# Altium footprint library E62系列-PcbLib.PcbLib: 3 footprints
Each footprint in its own frame and in the unit in brackets; x right, y up, seen from the top. Pads: shape width x height; smd on the part's side, far side on the other; paste and mask are expansions set on the pad; w line width, h text height; cw(c..) or ccw(c..) is an arc to the next point about the centre after c.
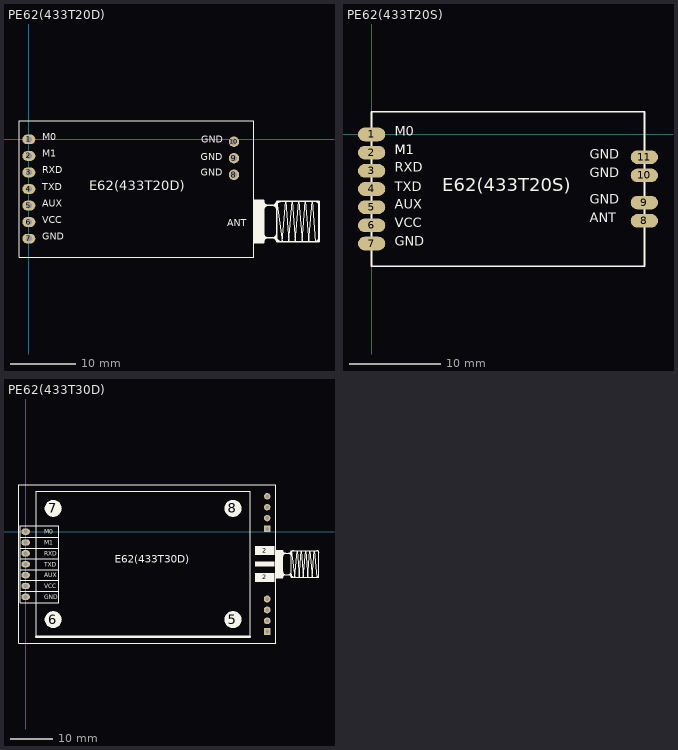
[diagram p0: the footprints below, top view; thin cyan lines are the x and y axes]

## PE62(433T20D) [mm] "36mm*21mm-D/SMA长度12.5mm"
pads (10):
  oval 2x1.5 hole 0.9: 1(0,0) 2(0,-2.54) 3(0,-5.08) 4(0,-7.62) 5(0,-10.16) 6(0,-12.7) 7(0,-15.24)
  round 1.6 hole 1: 8(31.49,-5.43) 9(31.49,-2.89) 10(31.49,-0.35)
Top Overlay:
  rectangle: 34.54,-15.87 36.04,-9.37
  rectangle: 34.54,-15.865 36.04,-9.365
  lines w0.1: 38.89,-15.72 39.41,-9.52 ; 38.89,-15.72 38.04,-9.52 38.89,-15.72 ; 38.89,-15.72 39.41,-9.52 ; 39.41,-9.52 39.92,-15.72 ; 39.41,-9.52 39.92,-15.72 ; 39.92,-15.72 40.43,-9.52 ; 39.92,-15.72 40.43,-9.52 ; 40.43,-9.52 40.91,-15.72 ; 40.43,-9.52 40.91,-15.72 ; 40.91,-15.72 41.43,-9.52 ; 40.91,-15.72 41.43,-9.52 ; 41.43,-9.52 41.94,-15.72 ; 41.43,-9.52 41.94,-15.72 ; 41.94,-15.72 42.43,-9.52 ; 41.94,-15.72 42.43,-9.52 ; 42.43,-9.52 42.95,-15.72 ; 42.43,-9.52 42.95,-15.72 ; 42.95,-15.72 43.47,-9.52 ; 42.95,-15.72 43.47,-9.52 ; 43.47,-9.52 43.98,-15.72 43.47,-9.52 ; -1.51,-18.12 34.558,-18.12 34.558,2.88 -1.51,2.88 -1.51,-18.12
  lines w0.254: 34.54,-15.87 36.04,-15.87 ; 34.54,-15.87 34.54,-9.37 ; 34.54,-15.87 36.04,-15.87 ; 34.54,-15.87 34.54,-9.37 ; 34.54,-9.37 36.04,-9.37 ; 34.54,-9.37 36.04,-9.37 ; 36.04,-15.87 36.04,-9.37 ; 36.04,-15.87 36.04,-9.37 ; 36.04,-14.47 ccw(c36.69,-14.47) 36.69,-15.12 ; 36.04,-14.47 ccw(c36.69,-14.47) 36.69,-15.12 ; 36.04,-14.47 36.04,-14.1 36.04,-14.47 ; 36.04,-10.82 cw(c36.74,-10.82) 36.74,-10.12 ; 36.04,-10.82 cw(c36.74,-10.82) 36.74,-10.12 ; 36.04,-10.82 36.04,-11.74 36.04,-10.82 ; 36.04,-9.49 ccw(c36.67,-9.49) 36.67,-10.12 ; 36.04,-9.49 ccw(c36.67,-9.49) 36.67,-10.12 ; 36.04,-9.49 36.04,-9.37 ; 36.04,-9.49 36.04,-9.37 ; 36.59,-15.12 ccw(c36.59,-15.67) 36.04,-15.67 cw(c36.59,-15.67) 36.59,-15.12 ; 36.59,-15.12 37.44,-15.12 ; 36.59,-15.12 37.44,-15.12 ; 36.67,-10.12 37.44,-10.12 ; 36.67,-10.12 37.44,-10.12 ; 36.69,-15.12 37.41,-15.12 ; 36.69,-15.12 37.41,-15.12 ; 36.74,-10.12 37.44,-10.12 ; 36.74,-10.12 37.44,-10.12 ; 37.41,-15.12 ccw(c37.41,-14.49) 38.04,-14.49 cw(c37.41,-14.49) 37.41,-15.12 ; 37.44,-15.12 cw(c37.44,-15.72) 38.04,-15.72 ; 37.44,-15.12 cw(c37.44,-15.72) 38.04,-15.72 ; 37.44,-10.12 cw(c37.44,-10.72) 38.04,-10.72 ccw(c37.44,-10.72) 37.44,-10.12 ; 37.44,-10.12 ccw(c37.44,-9.52) 38.04,-9.52 ; 37.44,-10.12 ccw(c37.44,-9.52) 38.04,-9.52 ; 38.04,-15.72 38.04,-9.52 ; 38.04,-15.72 44.54,-15.72 ; 38.04,-15.72 38.04,-9.52 ; 38.04,-15.72 44.54,-15.72 ; 38.04,-9.52 44.54,-9.52 ; 38.04,-9.52 44.54,-9.52 ; 38.72,-15.72 cw(c38.72,-15.04) 38.04,-15.04 ccw(c38.72,-15.04) 38.72,-15.72 ; 38.72,-15.72 38.87,-15.72 38.72,-15.72 ; 43.92,-15.72 ccw(c43.92,-15.1) 44.54,-15.1 cw(c43.92,-15.1) 43.92,-15.72 ; 43.92,-15.72 43.69,-15.72 43.92,-15.72 ; 44,-9.52 cw(c44,-10.06) 44.54,-10.06 ccw(c44,-10.06) 44,-9.52 ; 44,-9.52 43.6,-9.52 44,-9.52 ; 44.54,-15.72 44.54,-9.52 ; 44.54,-15.72 44.54,-9.52 ; 35.87,-15.12 38.04,-15.12 35.87,-15.12 ; 36.04,-10.12 38.04,-10.12 36.04,-10.12 ; 38.04,-10.13 cw(c38.65,-10.13) 38.65,-9.52 ccw(c38.65,-10.13) 38.04,-10.13
  text "GND" at 2.063,-15.78 h1.8
  text "VCC" at 2.063,-13.24 h1.8
  text "AUX" at 2.063,-10.7 h1.8
  text "TXD" at 2.063,-8.16 h1.8
  text "RXD" at 2.063,-5.62 h1.8
  text "M1" at 2.063,-3.08 h1.8
  text "M0" at 2.063,-0.54 h1.8
  text "ANT" at 30.48,-13.716 h1.8
  text "GND" at 26.447,-0.921 h1.8
  text "GND" at 26.416,-3.556 h1.8
  text "GND" at 26.416,-5.969 h1.8
  text "E62(433T20D)" at 9.271,-8.382 h2.5

## PE62(433T20S) [mm] "30mm*17mm*3.5mm-S"
pads (11):
  oval 3x1.5 smd: 1(0,0) 2(0,-2) 3(0,-4) 4(0,-6) 5(0,-8) 6(0,-10) 7(0,-12) 8(30,-9.5) 9(30,-7.5) 10(30,-4.5) 11(30,-2.5)
Top Overlay:
  lines w0.2: 0,-14.5 30,-14.5 30,2.5 0,2.5 0,-14.5
  text "ANT" at 24.017,-10.064 h1.8
  text "GND" at 24.017,-8.032 h1.8
  text "GND" at 24.017,-5.111 h1.8
  text "GND" at 24.017,-3.079 h1.8
  text "GND" at 2.554,-12.604 h1.8
  text "VCC" at 2.554,-10.572 h1.8
  text "TXD" at 2.554,-6.635 h1.8
  text "RXD" at 2.554,-4.476 h1.8
  text "M1" at 2.554,-2.571 h1.8
  text "M1" at 2.554,-2.571 h1.8
  text "M0" at 2.554,-0.539 h1.8
  text "AUX" at 2.554,-8.54 h1.8
  text "E62(433T20S)" at 7.761,-6.762 h2.5

## PE62(433T30D) [mm] "60mm*37mm-D//SMA长度12.5mm"
pads (22):
  oval 2x1.5 hole 0.9: 1(0,0) 2(0,-2.54) 3(0,-5.08) 4(0,-7.62) 5(0,-10.16) 6(0,-12.7) 7(0,-15.24)
  rect 4.5x1.2 on Top Overlay: 1(55.87,-7.56)
  rect 4.5x2 on Top Overlay: 2(55.87,-10.71) 2(55.87,-4.41)
  round 4 on Top Overlay: 5(48.46,-20.56) 6(6.46,-20.56) 7(6.46,5.44) 8(48.46,5.44)
  rect 1.6x1.6 hole 0.9: 8(56.46,-23.37)
  round 1.6 hole 0.9: 8(56.46,-20.83) 10(56.46,-18.29) 11(56.46,-15.75)
  rect 1.5x1.5 hole 0.9: 12(56.46,0.63)
  round 1.5 hole 0.9: 13(56.46,3.17) 14(56.46,5.71) 15(56.46,8.25)
Top Overlay:
  rectangle: 58.56,-10.805 60.06,-4.305
  rectangle: 58.56,-10.81 60.06,-4.31
  lines w0.1: -1.3,-13.96 3.91,-13.96 ; -1.3,-11.38 3.96,-11.38 ; -1.3,-8.88 4.01,-8.88 ; -1.3,-6.35 4.06,-6.35 ; -1.3,-3.83 3.96,-3.83 ; -1.3,-1.28 3.71,-1.28 ; 3.46,-13.96 7.75,-13.96 ; 3.46,-11.38 7.75,-11.38 ; 3.46,-8.88 7.75,-8.88 ; 3.46,-6.35 7.75,-6.35 ; 3.46,-3.83 7.75,-3.83 ; 3.46,-1.28 7.75,-1.28 ; 62.91,-10.66 62.06,-4.46 62.91,-10.66 ; 62.91,-10.66 63.43,-4.46 ; 62.91,-10.66 63.43,-4.46 ; 63.43,-4.46 63.94,-10.66 ; 63.43,-4.46 63.94,-10.66 ; 63.94,-10.66 64.45,-4.46 ; 63.94,-10.66 64.45,-4.46 ; 64.45,-4.46 64.93,-10.66 ; 64.45,-4.46 64.93,-10.66 ; 64.93,-10.66 65.45,-4.46 ; 64.93,-10.66 65.45,-4.46 ; 65.45,-4.46 65.96,-10.66 ; 65.45,-4.46 65.96,-10.66 ; 65.96,-10.66 66.45,-4.46 ; 65.96,-10.66 66.45,-4.46 ; 66.45,-4.46 66.97,-10.66 ; 66.45,-4.46 66.97,-10.66 ; 66.97,-10.66 67.49,-4.46 ; 66.97,-10.66 67.49,-4.46 ; 67.49,-4.46 68,-10.66 67.49,-4.46 ; -1.3,-16.62 -1.3,1.38 3.46,1.38 7.75,1.38 7.75,-16.62 3.46,-16.62 -1.3,-16.62
  lines w0.2: 2.46,-24.56 2.46,9.44 52.46,9.44 52.46,-24.56 ; -1.54,-26.06 58.46,-26.06 58.46,10.94 -1.54,10.94 -1.54,-26.06
  lines w0.254: 58.56,-10.81 58.56,-4.31 ; 58.56,-10.81 60.06,-10.81 ; 58.56,-10.81 58.56,-4.31 ; 58.56,-10.81 60.06,-10.81 ; 58.56,-4.31 60.06,-4.31 ; 58.56,-4.31 60.06,-4.31 ; 60.06,-10.81 60.06,-4.31 ; 60.06,-10.81 60.06,-4.31 ; 60.06,-9.41 ccw(c60.71,-9.41) 60.71,-10.06 ; 60.06,-9.41 ccw(c60.71,-9.41) 60.71,-10.06 ; 60.06,-9.41 60.06,-9.04 60.06,-9.41 ; 60.06,-5.76 cw(c60.76,-5.76) 60.76,-5.06 ; 60.06,-5.76 cw(c60.76,-5.76) 60.76,-5.06 ; 60.06,-5.76 60.06,-6.68 60.06,-5.76 ; 60.06,-4.43 ccw(c60.69,-4.43) 60.69,-5.06 ; 60.06,-4.43 ccw(c60.69,-4.43) 60.69,-5.06 ; 60.06,-4.43 60.06,-4.31 ; 60.06,-4.43 60.06,-4.31 ; 60.61,-10.06 ccw(c60.61,-10.61) 60.06,-10.61 cw(c60.61,-10.61) 60.61,-10.06 ; 60.61,-10.06 61.46,-10.06 ; 60.61,-10.06 61.46,-10.06 ; 60.69,-5.06 61.46,-5.06 ; 60.69,-5.06 61.46,-5.06 ; 60.71,-10.06 61.43,-10.06 ; 60.71,-10.06 61.43,-10.06 ; 60.76,-5.06 61.46,-5.06 ; 60.76,-5.06 61.46,-5.06 ; 61.43,-10.06 ccw(c61.43,-9.43) 62.06,-9.43 cw(c61.43,-9.43) 61.43,-10.06 ; 61.46,-10.06 cw(c61.46,-10.66) 62.06,-10.66 ; 61.46,-10.06 cw(c61.46,-10.66) 62.06,-10.66 ; 61.46,-5.06 ccw(c61.46,-4.46) 62.06,-4.46 ; 61.46,-5.06 cw(c61.46,-5.66) 62.06,-5.66 ccw(c61.46,-5.66) 61.46,-5.06 ; 61.46,-5.06 ccw(c61.46,-4.46) 62.06,-4.46 ; 62.06,-10.66 68.56,-10.66 ; 62.06,-10.66 62.06,-4.46 ; 62.06,-10.66 68.56,-10.66 ; 62.06,-10.66 62.06,-4.46 ; 62.06,-4.46 68.56,-4.46 ; 62.06,-4.46 68.56,-4.46 ; 62.74,-10.66 cw(c62.74,-9.98) 62.06,-9.98 ccw(c62.74,-9.98) 62.74,-10.66 ; 62.74,-10.66 62.89,-10.66 62.74,-10.66 ; 67.94,-10.66 ccw(c67.94,-10.04) 68.56,-10.04 cw(c67.94,-10.04) 67.94,-10.66 ; 67.94,-10.66 67.71,-10.66 67.94,-10.66 ; 68.02,-4.46 cw(c68.02,-5) 68.56,-5 ccw(c68.02,-5) 68.02,-4.46 ; 68.02,-4.46 67.62,-4.46 68.02,-4.46 ; 68.56,-10.66 68.56,-4.46 ; 68.56,-10.66 68.56,-4.46 ; 59.89,-10.06 62.06,-10.06 59.89,-10.06 ; 60.06,-5.06 62.06,-5.06 60.06,-5.06 ; 62.06,-5.07 cw(c62.67,-5.07) 62.67,-4.46 ccw(c62.67,-5.07) 62.06,-5.07
  lines w0.5: 2.46,-24.56 52.46,-24.56
  text "E62(433T30D)" at 20.828,-7.874 h3
  text "GND" at 4.35,-15.78 h1
  text "VCC" at 4.35,-13.24 h1
  text "AUX" at 4.35,-10.7 h1
  text "TXD" at 4.35,-8.16 h1
  text "RXD" at 4.35,-5.62 h1
  text "M1" at 4.35,-3.08 h1
  text "M0" at 4.35,-0.54 h1